# Altium schematic symbol library OQ0471510000G.SchLib: 1 symbol
Pins are listed as number, name and electrical type; pins without a type are passive.

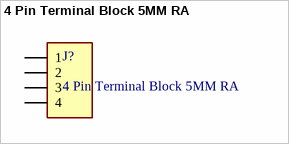
[diagram p0: symbol 4 Pin Terminal Block 5MM RA]

## 4 Pin Terminal Block 5MM RA
designator J?
4 Pin Terminal Block HDR 5MM THT RA OQ0471510000G; MF: Amphenol Anytek; Purchase-URL: https://pricing.snapeda.com/search/part/OQ0471510000G/?ref=eda; Package: None; MP: OQ0471510000G; Price: None; Availability: Warning; Value: *; Check_prices: https://www.snapeda.com/parts/OQ0471510000G/Amphenol/view-part/4900937/?ref=eda; SnapEDA_Link: https://www.snapeda.com/parts/OQ0471510000G/Amphenol/view-part/4900937/?ref=snap
footprint AMPHENOL_OQ0471510000G
pins: 1, 2, 3, 4